# EAGLE library part 25AA1024-I/SM (library Microchip_By_element14_Batch_1)
1 Mbit SPI Bus Serial EEPROM
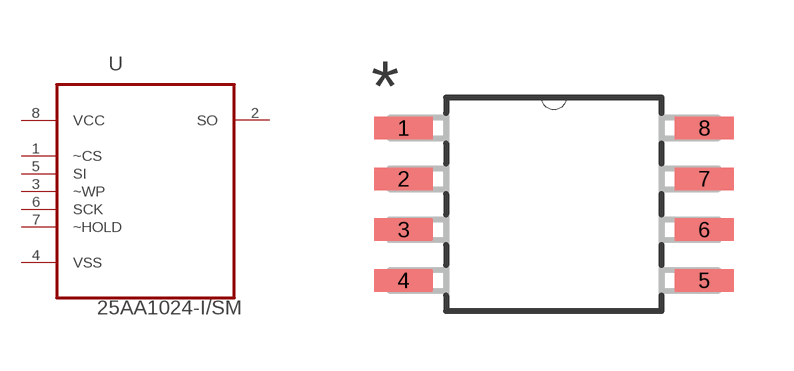
[diagram p119: symbol with the pads of SOIC127P794X203-8N; footprint SOIC127P794X203-8N]

Designator prefix -

## 25AA1024-I/SM (MPN: 25AA1024-I/SM; OC_FARNELL: 1555678; OC_NEWARK: 89H3146; PACKAGE: SOIC-8; SUPPLIER: MICROCHIP)  [SOIC127P794X203-8N]
1  ~CS  in
2  SO  out
3  ~WP  in
4  VSS  pas
5  SI  in
6  SCK  in
7  ~HOLD  in
8  VCC  pwr

## Footprint SOIC127P794X203-8N (pad centres in mm)
smd 1.473 x 0.559: 1 -3.759,1.905; 2 -3.759,0.635; 3 -3.759,-0.635; 4 -3.759,-1.905; 5 3.759,-1.905; 6 3.759,-0.635; 7 3.759,0.635; 8 3.759,1.905